# Altium footprint library TGHG.PcbLib: 1 footprints
Each footprint in its own frame and in the unit in brackets; x right, y up, seen from the top. Pads: shape width x height; smd on the part's side, far side on the other; paste and mask are expansions set on the pad; w line width, h text height; cw(c..) or ccw(c..) is an arc to the next point about the centre after c.
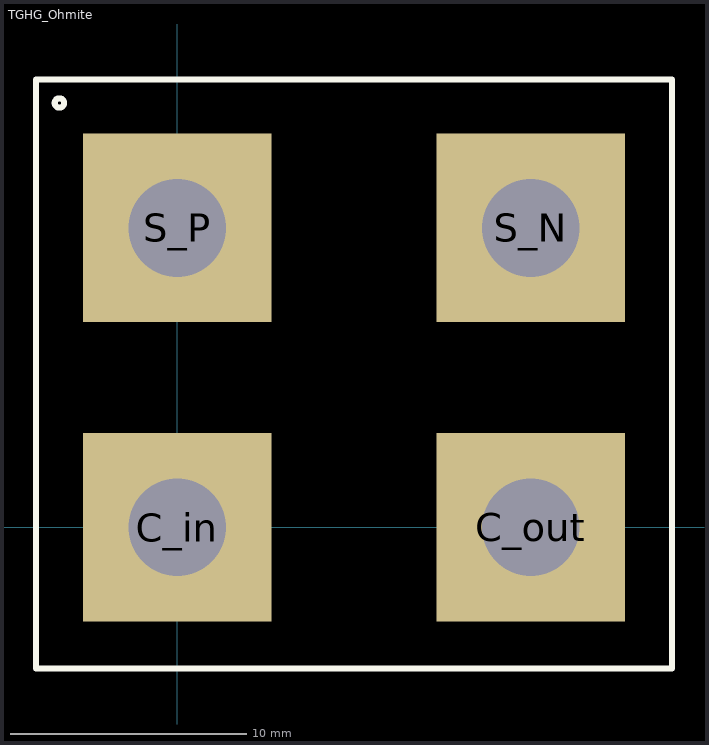
[diagram p0: the footprint, top view; thin cyan lines are the x and y axes]

## TGHG_Ohmite [mm] "Shunt Resistance"
pads (4):
  rect 8x8 hole 4.15: C_in(0,0) C_out(15,0) S_N(15,12.7) S_P(0,12.7)
Top Overlay:
  circle w0.254: c-5,18 r0.2
  lines w0.254: -6,-6 21,-6 21,19 -6,19 -6,-6